# Altium footprint library IC_ON_Semiconductor_LM7812CT_eec_MFG.PcbLib: 1 footprints
Each footprint in its own frame and in the unit in brackets; x right, y up, seen from the top. Pads: shape width x height; smd on the part's side, far side on the other; paste and mask are expansions set on the pad; w line width, h text height; cw(c..) or ccw(c..) is an arc to the next point about the centre after c.
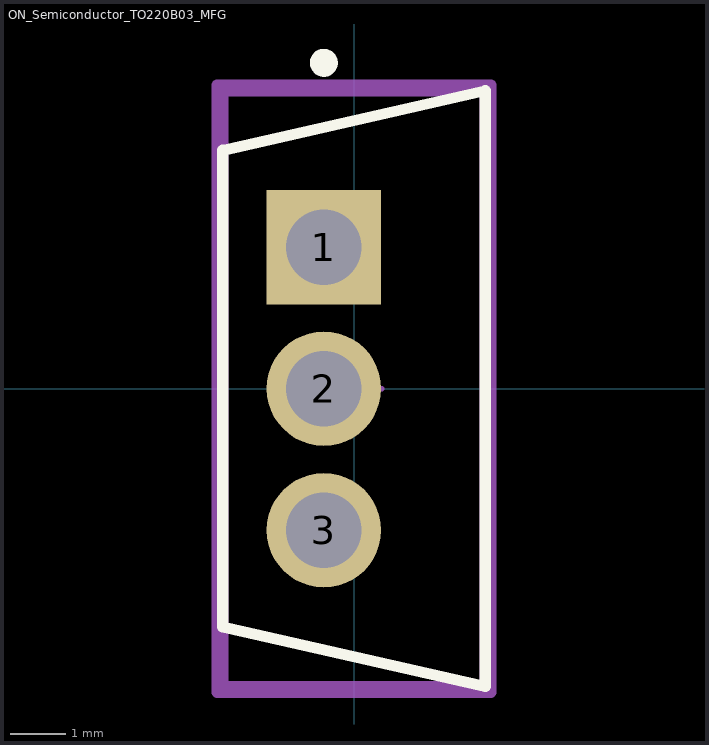
[diagram p0: the footprint, top view; thin cyan lines are the x and y axes]

## ON_Semiconductor_TO220B03_MFG [mm]
pads (3):
  rect 2.05x2.05 hole 1.35 paste-1000 mask+0: 1(-0.54,2.535)
  round 2.05 hole 1.35 paste-1000 mask+0: 2(-0.54,0) 3(-0.54,-2.535)
Top Overlay:
  circle w0.25: c-0.54,5.835 r0.125
  lines w0.2: 2.35,-5.335 -2.35,-4.268 -2.35,4.268 2.35,5.335 ; 2.35,-5.285 2.35,5.285
Mechanical 10:
  lines w0.2: -2.45,-5.435 2.45,-5.435 2.45,5.435 -2.45,5.435 -2.45,-5.435
  text ".Designator" at 0,0 h1
Mechanical 12:
  lines w0.2: -2.35,-5.335 2.35,-5.335 2.35,5.335 -2.35,5.335 -2.35,-5.335
Mechanical 15:
  lines w0.1: -0.5,0 0.5,0 ; 0,-0.5 0,0.5
  lines w0.2: -2.45,-5.435 2.45,-5.435 2.45,5.435 -2.45,5.435 -2.45,-5.435
3D body "IC_ON_Semiconductor_LM7812CT_eec.STEP": height 0.25, standoff 0, extent -2.45,-5.435 2.45,5.435